# Altium footprint library Esperto.PcbLib: 21 footprints (part 1 of 2)
Each footprint in its own frame and in the unit in brackets; x right, y up, seen from the top. Pads: shape width x height; smd on the part's side, far side on the other; paste and mask are expansions set on the pad; w line width, h text height; cw(c..) or ccw(c..) is an arc to the next point about the centre after c.
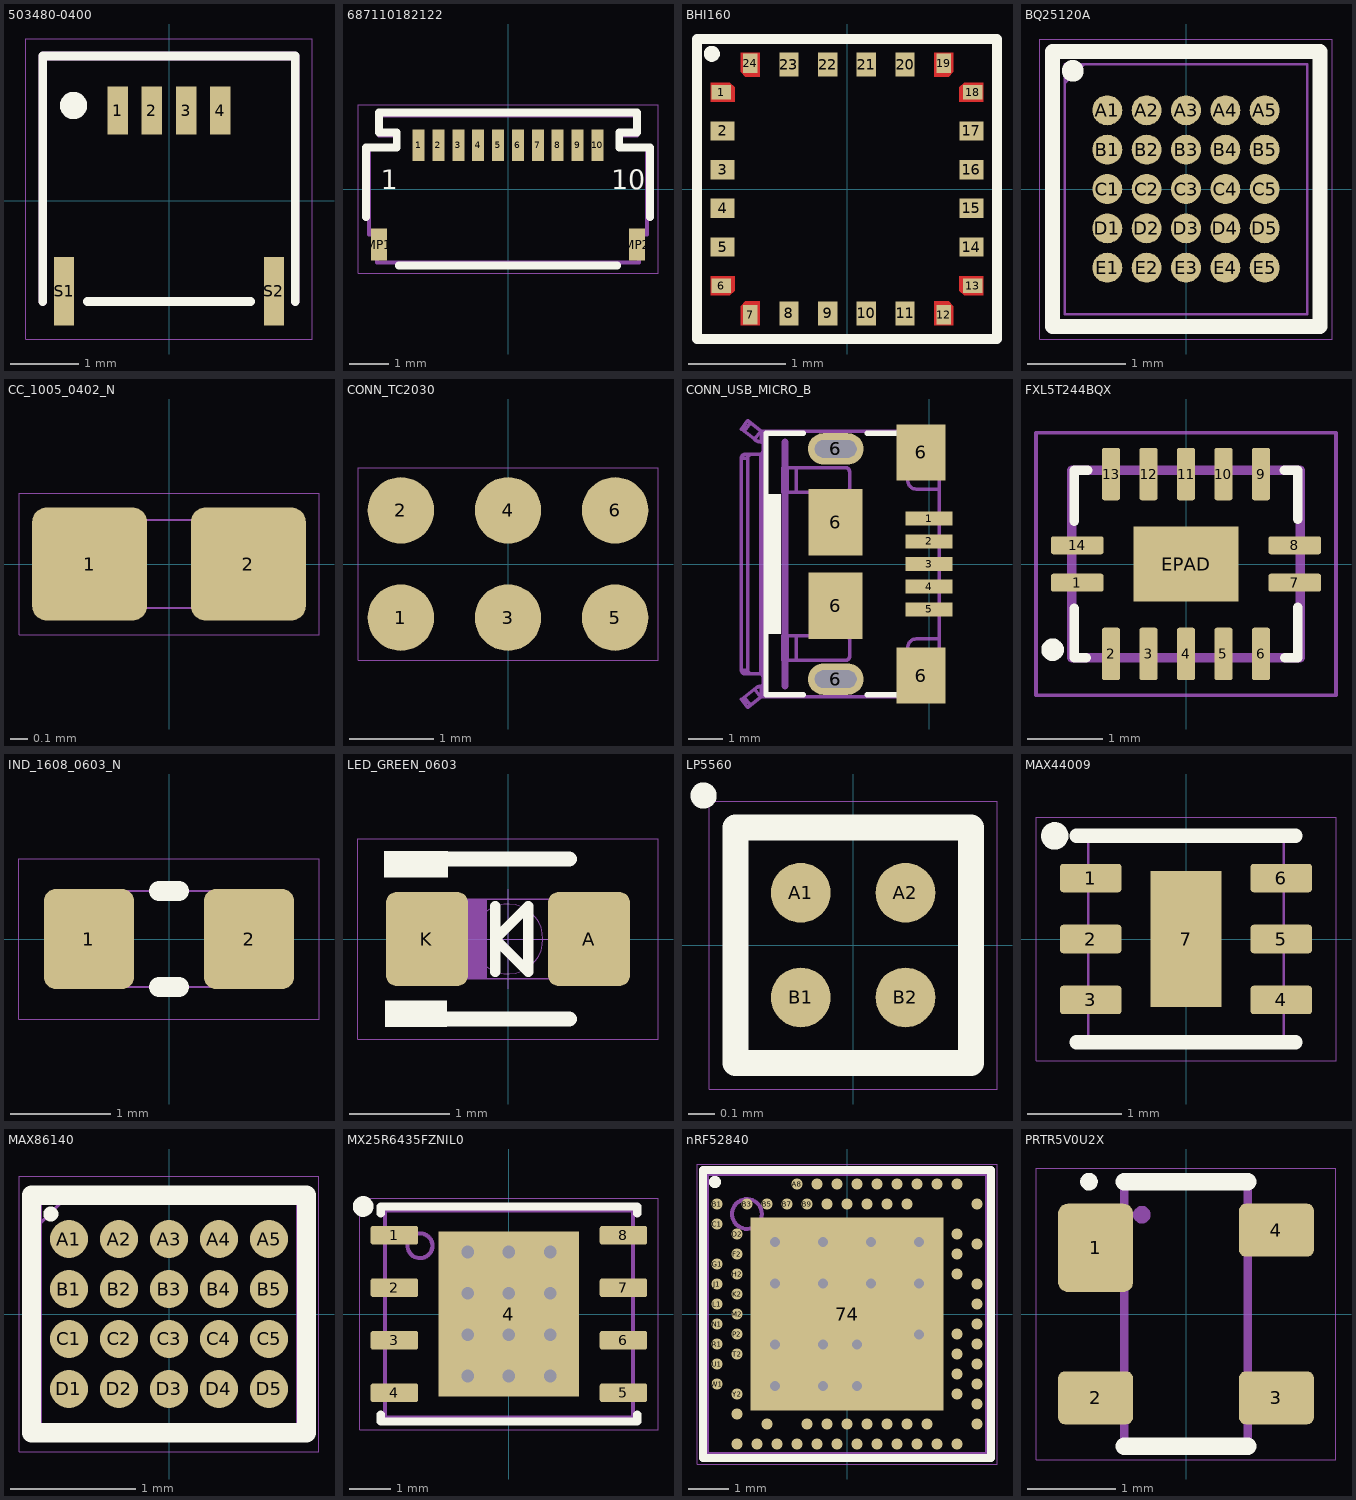
[diagram p0: the footprints below, top view; thin cyan lines are the x and y axes]

## 503480-0400 [mm]
pads (6):
  rect 0.3x0.7 smd: 1(-0.75,1.325) 2(-0.25,1.325) 3(0.25,1.325) 4(0.75,1.325)
  rect 0.3x1 smd: S1(-1.54,-1.325) S2(1.54,-1.325)
Top Overlay:
  circle w0.2: c-1.4,1.4 r0.1
  lines w0.127: -1.85,-1.475 -1.85,2.125 1.85,2.125 1.85,-1.475 ; -1.2,-1.475 1.2,-1.475
M11 Assy RefDes - Top:
  text ".Designator" at -1.85,-0.25 h0.5
M13 3D - Top:
  lines w0.127: -1.85,2.125 1.85,2.125 ; -1.85,2.125 -1.85,-1.475 -1.85,2.125 ; -1.85,2.125 1.85,2.125 ; 1.85,2.125 1.85,-1.475 1.85,2.125
M15 Courtyard Top:
  lines w0: -2.1,-2.025 -1.15,-2.025 1.15,-2.025 2.1,-2.025 2.1,2.375 -2.1,2.375 -2.1,-2.025
3D body "5034800400.stp": height 1.88, standoff -0.02, extent -1.85,-1.9 1.85,1.7

## 687110182122 [mm] "ZIF Connectors, Horizontal, Dual Contact Back Locking, pitch 0.5mm, 10p"
height 1.06
pads (12):
  rect 0.3x0.8 smd: 1(-2.25,1.1) 2(-1.75,1.1) 3(-1.25,1.1) 4(-0.75,1.1) 5(-0.25,1.1) 6(0.25,1.1) 7(0.75,1.1) 8(1.25,1.1) 9(1.75,1.1) 10(2.25,1.1)
  rect 0.4x0.8 smd: MP1(-3.25,-1.4) MP2(3.25,-1.4)
Top Overlay:
  lines w0.2: -3.575,-0.7 -3.575,1.05 -2.8,1.05 -2.8,1.425 -3.25,1.425 -3.25,1.925 3.25,1.925 3.25,1.425 2.8,1.425 2.8,1.05 3.575,1.05 3.575,-0.7 ; -2.75,-1.925 2.75,-1.925
  text "1" at -3.2,0 h0.5
  text "10" at 2.6,0 h0.5
M11 Assy RefDes - Top:
  text ".Designator" at -1.95,-0.85 h0.5
M13 3D - Top:
  lines w0.1: -3.5,-1.15 -3.5,1.05 -2.8,1.05 -2.8,1.35 -3.25,1.35 -3.25,1.85 3.25,1.85 3.25,1.35 2.8,1.35 2.8,1.05 3.5,1.05 3.5,-1.15 3.3,-1.15 3.3,-1.85 -3.3,-1.85 -3.3,-1.15 -3.5,-1.15
M15 Courtyard Top:
  lines w0: -3.775,-2.125 -3.775,2.125 3.775,2.125 3.775,-2.125 -3.775,-2.125
3D body "687110182122.stp": height 0.98, standoff -0.01, extent -3.5,-1.85 3.5,1.85

## BHI160 [mm]
pads (24):
  rect 0.2x0.15 smd mask+0: 1(-1.3,1) 6(-1.3,-1) 13(1.3,-1) 18(1.3,1)
  rect 0.25x0.2 smd mask+0.05: 2(-1.285,0.6) 3(-1.285,0.2) 4(-1.285,-0.2) 5(-1.285,-0.6) 14(1.285,-0.6) 15(1.285,-0.2) 16(1.285,0.2) 17(1.285,0.6)
  rect 0.15x0.2 smd mask+0: 7(-1,-1.3) 12(1,-1.3) 19(1,1.3) 24(-1,1.3)
  rect 0.2x0.25 smd mask+0.05: 8(-0.6,-1.285) 9(-0.2,-1.285) 10(0.2,-1.285) 11(0.6,-1.285) 20(0.6,1.285) 21(0.2,1.285) 22(-0.2,1.285) 23(-0.6,1.285)
Top Layer:
  region: -1.41,1.1 -1.41,0.9 -1.16,0.9 -1.16,1.05 -1.21,1.1
  region: -1.41,-1.1 -1.41,-0.9 -1.16,-0.9 -1.16,-1.05 -1.21,-1.1
  region: 1.41,1.1 1.41,0.9 1.16,0.9 1.16,1.05 1.21,1.1
  region: 1.41,-1.1 1.41,-0.9 1.16,-0.9 1.16,-1.05 1.21,-1.1
  region: 1.1,1.41 0.9,1.41 0.9,1.16 1.05,1.16 1.1,1.21
  region: -1.1,1.41 -0.9,1.41 -0.9,1.16 -1.05,1.16 -1.1,1.21
  region: -1.1,-1.41 -0.9,-1.41 -0.9,-1.16 -1.05,-1.16 -1.1,-1.21
  region: 1.1,-1.41 0.9,-1.41 0.9,-1.16 1.05,-1.16 1.1,-1.21
Top Overlay:
  circle w0.114: c-1.397,1.397 r0.025
  lines w0.1: -1.55,-1.55 1.55,-1.55 1.55,1.55 -1.55,1.55 -1.55,-1.55
Top Solder:
  region: -1.46,1.15 -1.46,0.85 -1.11,0.85 -1.11,1.068 -1.192,1.15
  region: -1.46,-1.15 -1.46,-0.85 -1.11,-0.85 -1.11,-1.068 -1.192,-1.15
  region: 1.46,1.15 1.46,0.85 1.11,0.85 1.11,1.068 1.192,1.15
  region: 1.46,-1.15 1.46,-0.85 1.11,-0.85 1.11,-1.068 1.192,-1.15
  region: 1.15,1.46 0.85,1.46 0.85,1.11 1.068,1.11 1.15,1.192
  region: -1.15,1.46 -0.85,1.46 -0.85,1.11 -1.068,1.11 -1.15,1.192
  region: -1.15,-1.46 -0.85,-1.46 -0.85,-1.11 -1.068,-1.11 -1.15,-1.192
  region: 1.15,-1.46 0.85,-1.46 0.85,-1.11 1.068,-1.11 1.15,-1.192
M11 Assy RefDes - Top:
  text ".Designator" at -1.75,-0.15 h0.5
M15 Courtyard Top:
  lines w0.05: -1.55,1.55 -1.55,-1.55 1.55,-1.55 1.55,1.55 ; -1.55,1.55 1.55,1.55 ; -1.55,1.55 1.55,1.55
3D body: height 1.01, standoff 1, extent -1.298,0.9 -0.898,1.299
3D body: height 1, standoff 0, extent -1.5,-1.5 1.5,1.5

## BQ25120A [mil]
pads (25):
  round 12 smd mask+1.57: A1(-31.5,31.5)
  round 12 smd paste+0 mask+1.57: A2(-15.75,31.5) A3(0,31.5) A4(15.75,31.5) A5(31.5,31.5) B1(-31.5,15.75) B2(-15.75,15.75) B3(0,15.75) B4(15.75,15.75) B5(31.5,15.75) C1(-31.5,0) C2(-15.75,0) C3(0,0) C4(15.75,0) C5(31.5,0) D1(-31.5,-15.75) D2(-15.75,-15.75) D3(0,-15.75) D4(15.75,-15.75) D5(31.5,-15.75) E1(-31.5,-31.5) E2(-15.75,-31.5) E3(0,-31.5) E4(15.75,-31.5) E5(31.5,-31.5)
Top Overlay:
  circle w7.87: c-45.28,47.24 r0.39
  lines w6: -53.5,-55 53.5,-55 53.5,55 -53.5,55 -53.5,-55
M11 Assy RefDes - Top:
  text ".Designator" at -68.9,-9.84 h19.68
M13 3D - Top:
  lines w1: -48.5,42.13 -40.63,50 ; -48.5,-50 48.5,-50 48.5,50 -48.5,50 -48.5,-50
M15 Courtyard Top:
  lines w0: -58.5,-60 -58.5,60 58.5,60 58.5,-60 -58.5,-60
3D body: height 10, standoff 0, extent 0,0 0,0
3D body "BQ25120.step": height 20.12, standoff 0, extent -48.5,-49.99 48.51,50.01

## CC_1005_0402_N [mm] "Chip Capacitor, 2-Leads, Body 1.0x0.5mm, IPC Medium Density"
height 0.56
pads (2):
  rrect25% 0.65x0.64 smd paste+0 mask+0.064: 1(-0.45,0) 2(0.45,0)
M9 Assy Top:
  lines w0.013: -0.28,-0.25 -0.28,0.25 ; 0.28,-0.25 0.28,0.25 ; -0.55,-0.25 -0.55,0.25 0.55,0.25 0.55,-0.25 -0.55,-0.25
M11 Assy RefDes - Top:
  text ".Designator" at -0.47,-0.1 h0.2
M15 Courtyard Top:
  lines w0: -0.85,-0.4 -0.85,0.4 0.85,0.4 0.85,-0.4 -0.85,-0.4
3D body: height 0.56, standoff 0, extent -0.275,-0.25 0.275,0.25
3D body: height 0.56, standoff 0, extent -0.55,-0.25 -0.275,0.25
3D body: height 0.56, standoff 0, extent 0.275,-0.25 0.55,0.25

## CONN_TC2030 [mil]
pads (6):
  round 31 smd paste-3937.01 mask+2.5: 1(-50,-25) 2(-50,25) 3(0,-25) 4(0,25) 5(50,-25) 6(50,25)
M15 Courtyard Top:
  lines w0.5: -70,-45 70,-45 70,45 -56.06,45 -70,45 -70,-45

## CONN_USB_MICRO_B [mm]
pads (13):
  rect 1.35x0.4 smd: 1(0,1.3) 2(0,0.65) 3(0,0) 4(0,-0.65) 5(0,-1.3)
  oval 1.6x0.9 hole 0.5 slot 1.2 at 0 deg: 6(-2.675,-3.3) 6(-2.675,3.3)
  oval 2x1.5 on Top Paste: 6(-2.675,-3.3) 6(-2.675,3.3)
  rect 1.55x1.9 smd: 6(-2.675,-1.2) 6(-2.675,1.2)
  rect 1.4x1.6 smd: 6(-0.225,-3.2) 6(-0.225,3.2)
Top Overlay:
  rectangle: -4.75,-2 -4.25,2
  lines w0.152: -3.6,-3.75 -4.675,-3.75 -4.675,3.75 -3.6,3.75 ; -1.775,-3.75 0.25,-3.75 0.25,-3.275 ; -1.775,3.75 0.25,3.75 0.25,3.275
Mechanical 7:
  drawing of 2738 lines, arcs and shapes, not listed
  text ".Designator" at -3.414,-0.127 h0.3
M15 Courtyard Top:
  lines w0.2: -4.125,-3.5 -4.125,3.5
3D body "User Library-MicroUSB-B_Molex_105017-0001.step": height 2.72, standoff -0.59, extent -5.28,-4.1 0.15,4.1

## FXL5T244BQX [mm]
pads (15):
  rrect25% 0.7x0.24 smd: 1(-1.45,-0.25) 7(1.45,-0.25) 8(1.45,0.25) 14(-1.45,0.25)
  rrect25% 0.24x0.7 smd: 2(-1,-1.2) 3(-0.5,-1.2) 4(0,-1.2) 5(0.5,-1.2) 6(1,-1.2) 9(1,1.2) 10(0.5,1.2) 11(0,1.2) 12(-0.5,1.2) 13(-1,1.2)
  rect 1.4x1 smd: EPAD(0,0)
Top Overlay:
  circle w0.2: c-1.778,-1.143 r0.05
  lines w0.127: -1.488,-0.59 -1.488,-1.25 -1.328,-1.25 ; -1.488,0.57 -1.488,1.25 -1.308,1.25 ; 1.308,1.25 1.488,1.25 1.488,0.6 ; 1.318,-1.25 1.488,-1.25 1.488,-0.58
M13 3D - Top:
  lines w0.127: -1.524,-1.25 1.524,-1.25 ; -1.524,-1.25 -1.524,1.25 ; -1.524,-1.25 1.524,-1.25 ; -1.524,1.25 1.524,1.25 ; -1.524,1.25 1.524,1.25 ; 1.524,-1.25 1.524,1.25
M15 Courtyard Top:
  lines w0.05: -2,-1.75 -2,1.75 2,1.75 2,-1.75 -2,-1.75
3D body "FXL5T244BQX--3DModel-STEP-56544.STEP": height 0.75, standoff -0.05, extent -1.5,-1.25 1.5,1.25

## IND_1608_0603_N [mm] "Chip Resistor, 2-Leads, Body 1.5x0.8mm, IPC Medium Density"
height 0.55
pads (2):
  rrect25% 0.9x1 smd paste+0 mask+0.064: 1(-0.8,0) 2(0.8,0)
Top Overlay:
  lines w0.2: -0.1,-0.48 0.1,-0.48 ; -0.1,0.48 0.1,0.48
M9 Assy Top:
  lines w0.013: -0.55,-0.48 -0.55,0.475 ; 0.55,-0.48 0.55,0.475 ; -0.85,-0.48 -0.85,0.48 0.85,0.48 0.85,-0.48 -0.85,-0.48
M11 Assy RefDes - Top:
  text ".Designator" at -0.62,-0.1 h0.3
M13 3D - Top:
  lines w0: -0.85,-0.48 0.85,-0.48 0.85,0.48 -0.85,0.48 -0.85,-0.48
M15 Courtyard Top:
  lines w0: -1.5,-0.8 1.5,-0.8 1.5,0.8 -1.5,0.8 -1.5,-0.8
3D body: height 0.55, standoff 0, extent -0.55,-0.48 0.55,0.48
3D body: height 0.55, standoff 0, extent -0.85,-0.48 -0.55,0.48
3D body: height 0.55, standoff 0, extent 0.55,-0.48 0.85,0.48

## LED_GREEN_0603 [mm] "LED,Chip;1.60mm L X 0.80mm W X 0.45mm H"
height 0.45
pads (2):
  rrect25% 0.82x0.94 smd mask+0.064: A(0.81,0) K(-0.81,0)
Top Overlay:
  region: -0.612,-0.613 -1.23,-0.613 -1.23,-0.879 -0.612,-0.879
  region: -0.6,0.879 -1.241,0.879 -1.241,0.613 -0.6,0.613
  lines w0.102: -0.127,-0.33 -0.127,0 ; -0.127,0.33 -0.127,0 ; -0.127,0 0.203,0.33 0.203,-0.33 -0.127,0
  lines w0.152: -1,-0.8 0.612,-0.8 ; -1,0.8 0.612,0.8
M9 Assy Top:
  lines w0.013: -0.514,-0.4 -0.514,0.4 ; -0.501,-0.4 -0.501,0.4 ; -0.488,-0.4 -0.488,0.4 ; -0.475,-0.4 -0.475,0.4 ; -0.462,-0.4 -0.462,0.4 ; -0.449,-0.4 -0.449,0.4 ; -0.436,-0.4 -0.436,0.4 ; -0.423,-0.4 -0.423,0.4 ; -0.41,-0.4 -0.41,0.4 ; -0.397,-0.4 -0.397,0.4 ; -0.384,-0.4 -0.384,0.4 ; -0.371,-0.4 -0.371,0.4 ; -0.358,-0.4 -0.358,0.4 ; -0.345,-0.4 -0.345,0.4 ; -0.332,-0.4 -0.332,0.4 ; -0.319,-0.4 -0.319,0.4 ; -0.306,-0.4 -0.306,0.4 ; -0.293,-0.4 -0.293,0.4 ; -0.28,-0.4 -0.28,0.4 ; -0.267,-0.4 -0.267,0.4 ; -0.254,-0.4 -0.254,0.4 ; -0.241,-0.4 -0.241,0.4 ; -0.228,-0.4 -0.228,0.4 ; -0.215,-0.4 -0.215,0.4 ; -0.8,-0.4 0.8,-0.4 0.8,0.4 -0.8,0.4 ; -0.8,-0.4 -0.8,0.4 ; -0.8,-0.4 -0.8,0.4
M11 Assy RefDes - Top:
  text ".Designator" at -0.215,-0.254 h0.3
M15 Courtyard Top:
  circle w0: c0,0 r0.35
  lines w0: -0.5,0 0.5,0 ; 0,-0.5 0,0.5 ; -1.5,-1 -1.5,1 1.5,1 1.5,-1 -1.5,-1
3D body: height 0.45, standoff 0.18, extent -0.55,-0.4 0.55,0.4
3D body: height 0.18, standoff 0, extent -0.8,-0.4 0.8,0.4

## LP5560 [mm]
pads (4):
  round 0.229 smd mask+0.051: A1(-0.2,0.2) A2(0.2,0.2) B1(-0.2,-0.2) B2(0.2,-0.2)
Top Overlay:
  circle w0.05: c-0.572,0.572 r0.025
  lines w0.1: -0.45,-0.45 -0.45,0.45 0.45,0.45 0.45,-0.45 -0.45,-0.45
M11 Assy RefDes - Top:
  text ".Designator" at -0.889,-0.127 h0.25
M15 Courtyard Top:
  lines w0: -0.55,-0.55 0.55,-0.55 0.55,0.55 -0.55,0.55 -0.55,-0.55
3D body: height 0.6, standoff 0, extent -0.508,-0.508 0.508,0.508

## MAX44009 [mil]
pads (7):
  rrect25% 26x12 smd paste+0 mask+2.5: 1(-40,25.59) 2(-40,0) 3(-40,-25.59) 4(40,-25.59) 5(40,0) 6(40,25.59)
  rect 30x57 smd paste-28 mask+2.5: 7(0,0)
Top Overlay:
  circle w6: c-55.12,43.31 r2.76
  lines w6: -46,-43.31 46,-43.31 ; -46,43.31 46,43.31
Top Paste:
  region: 15,28.5 -15,28.5 -15,-28.5 15,-28.5
M11 Assy RefDes - Top:
  text ".Designator" at -75.52,-5.91 h19.68
M13 3D - Top:
  lines w1: -41,-41 41,-41 41,41 -41,41 -41,-41
M15 Courtyard Top:
  lines w0.04: -62.99,-51.18 -62.99,51.18 62.99,51.18 62.99,-51.18 -62.99,-51.18
3D body: height 10, standoff 0, extent 0,0 10,10
3D body "MAX440009.step": height 26.1, standoff 0, extent -40.98,-40.98 40.99,40.99

## MAX86140 [mil]
pads (20):
  round 12 smd paste+0 mask+1.57: A1(-31.5,23.62) A2(-15.75,23.62) A3(0,23.62) A4(15.75,23.62) A5(31.5,23.62) B1(-31.5,7.87) B2(-15.75,7.87) B3(0,7.87) B4(15.75,7.87) B5(31.5,7.87) C1(-31.5,-7.87) C2(-15.75,-7.87) C3(0,-7.87) C4(15.75,-7.87) C5(31.5,-7.87) D1(-31.5,-23.62) D2(-15.75,-23.62) D3(0,-23.62) D4(15.75,-23.62) D5(31.5,-23.62)
Top Overlay:
  circle w3.94: c-37.24,31.5 r0.39
  lines w5.98: -43.31,-37.4 43.31,-37.4 43.31,37.4 -43.31,37.4 -43.31,-37.4
M11 Assy RefDes - Top:
  text ".Designator" at -26.38,-3.94 h7.87
M13 3D - Top:
  lines w1: -40.5,28.63 -32.63,36.5 ; -40.5,-36.5 40.5,-36.5 40.5,36.5 -40.5,36.5 -40.5,-36.5
M15 Courtyard Top:
  lines w0: -47.24,-43.31 -47.24,43.31 47.24,43.31 47.24,-43.31 -47.24,-43.31
3D body: height 10, standoff 0, extent 0,0 10,10
3D body "MAX86140.step": height 20.12, standoff 0, extent -40.51,-36.49 40.52,36.5

## MX25R6435FZNIL0 [mm]
pads (9):
  rrect25% 1.15x0.45 smd: 1(-2.77,1.905) 2(-2.77,0.635) 3(-2.77,-0.635) 4(-2.77,-1.905) 5(2.77,-1.905) 6(2.77,-0.635) 7(2.77,0.635) 8(2.77,1.905)
  rect 3.4x4 smd paste-1.7: 4(0,0)
via -1,1.5 diameter 0.61 hole 0.305
via 0,1.5 diameter 0.61 hole 0.305
via 1,1.5 diameter 0.61 hole 0.305
via -1,0.5 diameter 0.61 hole 0.305
via 0,0.5 diameter 0.61 hole 0.305
via 1,0.5 diameter 0.61 hole 0.305
via -1,-0.5 diameter 0.61 hole 0.305
via 0,-0.5 diameter 0.61 hole 0.305
via 1,-0.5 diameter 0.61 hole 0.305
via -1,-1.5 diameter 0.61 hole 0.305
via 0,-1.5 diameter 0.61 hole 0.305
via 1,-1.5 diameter 0.61 hole 0.305
Top Overlay:
  lines w0.2: -3.1,-2.43 -3.1,-2.6 3.1,-2.6 3.1,-2.43 ; -3.1,2.43 -3.1,2.6 3.1,2.6 3.1,2.43
  lines w0.25: -3.4,2.6 cw(c-3.525,2.6) -3.4,2.608
Top Paste:
  rectangle: -1.595,0.765 -0.665,1.895
  rectangle: -1.595,-0.565 -0.665,0.565
  rectangle: -1.595,-1.895 -0.665,-0.765
  rectangle: -0.465,0.765 0.465,1.895
  rectangle: -0.465,-0.565 0.465,0.565
  rectangle: -0.465,-1.895 0.465,-0.765
  rectangle: 0.665,0.765 1.595,1.895
  rectangle: 0.665,-0.565 1.595,0.565
  rectangle: 0.665,-1.895 1.595,-0.765
Mechanical 7:
  circle w0.1: c-2.15,1.65 r0.3
  lines w0.1: -3,-2.5 -3,2.5 3,2.5 3,-2.5 -3,-2.5
  text ".Designator" at -1.7,-0.1 h0.3
M15 Courtyard Top:
  lines w0: -3.605,-2.8 -3.605,2.8 3.605,2.8 3.605,-2.8 -3.605,-2.8
3D body "SON127P600X80_HS-9N.step": height 0.8, standoff 0, extent -3.051,-2.55 3.051,2.55

## nRF52840 [mm]
pads (74):
  rect 4.83x4.83 smd mask+0.05: 74(0,0)
  round 0.275 smd paste+0.012 mask+0.05: A8(-1.25,3.25) A10(-0.75,3.25) A12(-0.25,3.25) A14(0.25,3.25) A16(0.75,3.25) A18(1.25,3.25) A20(1.75,3.25) A22(2.25,3.25) A23(2.75,3.25) AA24(3.25,-2.25) AB2(-2.75,-2.5) AC5(-2,-2.75) AC9(-1,-2.75) AC11(-0.5,-2.75) AC13(0,-2.75) AC15(0.5,-2.75) AC17(1,-2.75) AC19(1.5,-2.75) AC21(2,-2.75) AC24(3.25,-2.75) AD2(-2.75,-3.25) AD4(-2.25,-3.25) AD6(-1.75,-3.25) AD8(-1.25,-3.25) AD10(-0.75,-3.25) AD12(-0.25,-3.25) AD14(0.25,-3.25) AD16(0.75,-3.25) AD18(1.25,-3.25) AD20(1.75,-3.25) AD22(2.25,-3.25) AD23(2.75,-3.25) B1(-3.25,2.75) B3(-2.5,2.75) B5(-2,2.75) B7(-1.5,2.75) B9(-1,2.75) B11(-0.5,2.75) B13(0,2.75) B15(0.5,2.75) B17(1,2.75) B19(1.5,2.75) B24(3.25,2.75) C1(-3.25,2.25) D2(-2.75,2) D23(2.75,2) E24(3.25,1.75) F2(-2.75,1.5) F23(2.75,1.5) G1(-3.25,1.25) H2(-2.75,1) H23(2.75,1) J1(-3.25,0.75) J24(3.25,0.75) K2(-2.75,0.5) L1(-3.25,0.25) L24(3.25,0.25) M2(-2.75,0) N1(-3.25,-0.25) N24(3.25,-0.25) P2(-2.75,-0.5) P23(2.75,-0.5) R1(-3.25,-0.75) R24(3.25,-0.75) T2(-2.75,-1) T23(2.75,-1) U1(-3.25,-1.25) U24(3.25,-1.25) V23(2.75,-1.5) W1(-3.25,-1.75) W24(3.25,-1.75) Y2(-2.75,-2) Y23(2.75,-2)
via 1.8,-0.508 diameter 0.5 hole 0.25
via 0.254,-1.8 diameter 0.5 hole 0.25
via -0.6,-1.8 diameter 0.5 hole 0.25
via -1.8,-1.8 diameter 0.5 hole 0.25
via 0.254,-0.762 diameter 0.5 hole 0.25
via -0.6,-0.762 diameter 0.5 hole 0.25
via -1.8,-0.762 diameter 0.5 hole 0.25
via 1.8,0.762 diameter 0.5 hole 0.25
via 0.6,0.762 diameter 0.5 hole 0.25
via -0.6,0.762 diameter 0.5 hole 0.25
via -1.8,0.762 diameter 0.5 hole 0.25
via 1.8,1.8 diameter 0.5 hole 0.25
via 0.6,1.8 diameter 0.5 hole 0.25
via -0.6,1.8 diameter 0.5 hole 0.25
via -1.8,1.8 diameter 0.5 hole 0.25
Top Overlay:
  circle w0.2: c-3.3,3.3 r0.05
  lines w0.2: -3.6,-3.6 3.6,-3.6 3.6,3.6 -3.6,3.6 -3.6,-3.6
Mechanical 7:
  circle w0.1: c-2.5,2.5 r0.373
  lines w0.1: -3.5,-3.5 -3.5,3.5 3.5,3.5 3.5,-3.5 -3.5,-3.5
  text ".Designator" at -2.2,-0.1 h0.3
M15 Courtyard Top:
  lines w0: -3.75,-3.75 3.75,-3.75 3.75,3.75 -3.75,3.75 -3.75,-3.75
3D body "LGA88C25P25X25_700X700X85.step": height 0.85, standoff 0, extent -3.55,-3.55 3.55,3.55

## PRTR5V0U2X [mm]
pads (4):
  rrect25% 0.85x1 smd: 1(-1.025,0.75)
  rrect25% 0.85x0.6 smd: 2(-1.025,-0.95) 3(1.025,-0.95) 4(1.025,0.95)
Top Overlay:
  circle w0.1: c-1.1,1.5 r0.05
  lines w0.2: -0.7,-1.5 0.7,-1.5 ; -0.7,1.5 0.7,1.5
Mechanical 7:
  circle w0.1: c-0.5,1.125 r0.05
  lines w0.1: -0.7,-1.5 0.7,-1.5 0.7,1.5 -0.7,1.5 -0.7,-1.5
  text ".Designator" at -1.5,-0.3 h0.3
M15 Courtyard Top:
  lines w0: -1.7,-1.65 1.7,-1.65 1.7,1.65 -1.7,1.65 -1.7,-1.65
3D body "User Library-sot143.step": height 1, standoff 0, extent -1.21,-1.46 1.21,1.46